# EAGLE library part OPI-PC2 (library OPI-PC2)
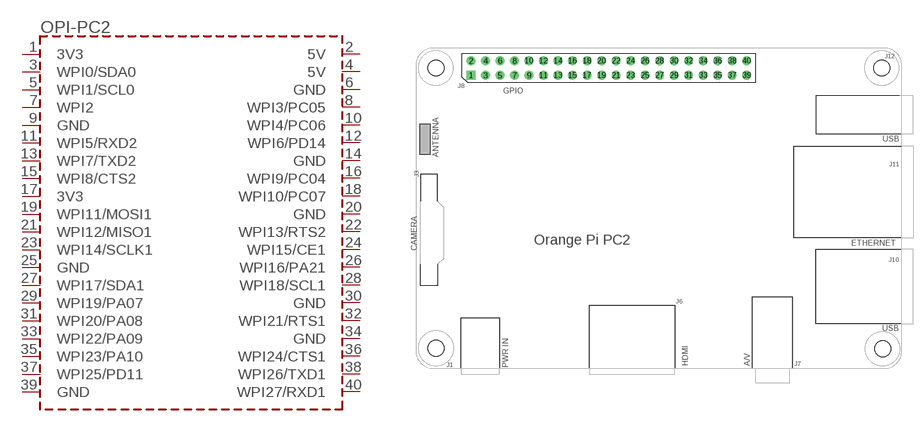
[diagram p1: symbol with the pads of RPI3; footprint RPI3]

Designator prefix OPI

## OPI-PC2  [RPI3]
1  3V3
2  5V
3  WPI0/SDA0
4  5V
5  WPI1/SCL0
6  GND
7  WPI2
8  WPI3/PC05
9  GND
10  WPI4/PC06
11  WPI5/RXD2
12  WPI6/PD14
13  WPI7/TXD2
14  GND
15  WPI8/CTS2
16  WPI9/PC04
17  3V3
18  WPI10/PC07
19  WPI11/MOSI1
20  GND
21  WPI12/MISO1
22  WPI13/RTS2
23  WPI14/SCLK1
24  WPI15/CE1
25  GND
26  WPI16/PA21
27  WPI17/SDA1
28  WPI18/SCL1
29  WPI19/PA07
30  GND
31  WPI20/PA08
32  WPI21/RTS1
33  WPI22/PA09
34  GND
35  WPI23/PA10
36  WPI24/CTS1
37  WPI25/PD11
38  WPI26/TXD1
39  GND
40  WPI27/RXD1

## Footprint RPI3 (pad centres in mm)
Package for the Raspberry Pi 3 board created by Dave Young for www.elemenet14.com based on documented dimensions and board measurements. For more documentation, please visit http://www.raspberrypi.org/documentation/hardware/raspberrypi/
drill 1.016 square: 1 9.64,51.23
drill 1.016: 2 9.627,53.772; 3 12.167,51.232; 4 12.167,53.772; 5 14.707,51.232; 6 14.707,53.772; 7 17.247,51.232; 8 17.247,53.772; 9 19.787,51.232; 10 19.787,53.772; 11 22.327,51.232; 12 22.327,53.772; 13 24.867,51.232; 14 24.867,53.772; 15 27.407,51.232; 16 27.407,53.772; 17 29.947,51.232; 18 29.947,53.772; 19 32.487,51.232; 20 32.487,53.772; 21 35.027,51.232; 22 35.027,53.772; 23 37.567,51.232; 24 37.567,53.772; 25 40.107,51.232; 26 40.107,53.772; 27 42.647,51.232; 28 42.647,53.772; 29 45.187,51.232; 30 45.187,53.772; 31 47.727,51.232; 32 47.727,53.772; 33 50.267,51.232; 34 50.267,53.772; 35 52.807,51.232; 36 52.807,53.772; 37 55.347,51.232; 38 55.347,53.772; 39 57.887,51.232; 40 57.887,53.772
hole 2.75 at 3.5,3.5
hole 2.75 at 81.67,3.42
hole 2.75 at 3.5,52.5
hole 2.75 at 81.5,52.5